# Altium schematic symbol library Schlib1.SchLib: 6 symbols
Pins are listed as number, name and electrical type; pins without a type are passive.

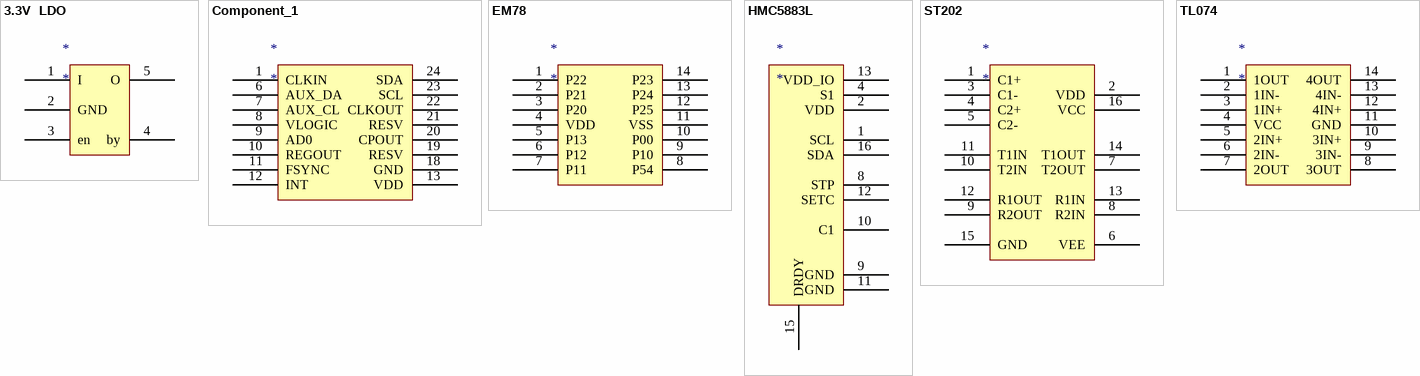
[diagram p0: symbols 3.3V  LDO to TL074]

## 3.3V  LDO
designator *
pins: 1 I, 2 GND, 3 en, 4 by, 5 O
5 alternate drawings of the same symbol

## Component_1
designator *
footprint MPU6050
pins: 1 CLKIN, 6 AUX_DA, 7 AUX_CL, 8 VLOGIC, 9 AD0, 10 REGOUT, 11 FSYNC, 12 INT, 13 VDD, 18 GND, 19 RESV, 20 CPOUT, 21 RESV, 22 CLKOUT, 23 SCL, 24 SDA

## EM78
designator *
pins: 1 P22, 2 P21, 3 P20, 4 VDD, 5 P13, 6 P12, 7 P11, 8 P54, 9 P10, 10 P00, 11 VSS, 12 P25, 13 P24, 14 P23

## HMC5883L
designator *
pins: 1 SCL, 2 VDD, 4 S1, 8 STP, 9 GND, 10 C1, 11 GND, 12 SETC, 13 VDD_IO, 15 DRDY, 16 SDA

## ST202
designator *
pins: 1 C1+, 2 VDD, 3 C1-, 4 C2+, 5 C2-, 6 VEE, 7 T2OUT, 8 R2IN, 9 R2OUT, 10 T2IN, 11 T1IN, 12 R1OUT, 13 R1IN, 14 T1OUT, 15 GND, 16 VCC

## TL074
designator *
pins: 1 1OUT, 2 1IN-, 3 1IN+, 4 VCC, 5 2IN+, 6 2IN-, 7 2OUT, 8 3OUT, 9 3IN-, 10 3IN+, 11 GND, 12 4IN+, 13 4IN-, 14 4OUT